# Altium integrated library Linear Technology Power Management Hot Swap Controllers.IntLib: 992 symbols (part 84 of 93)
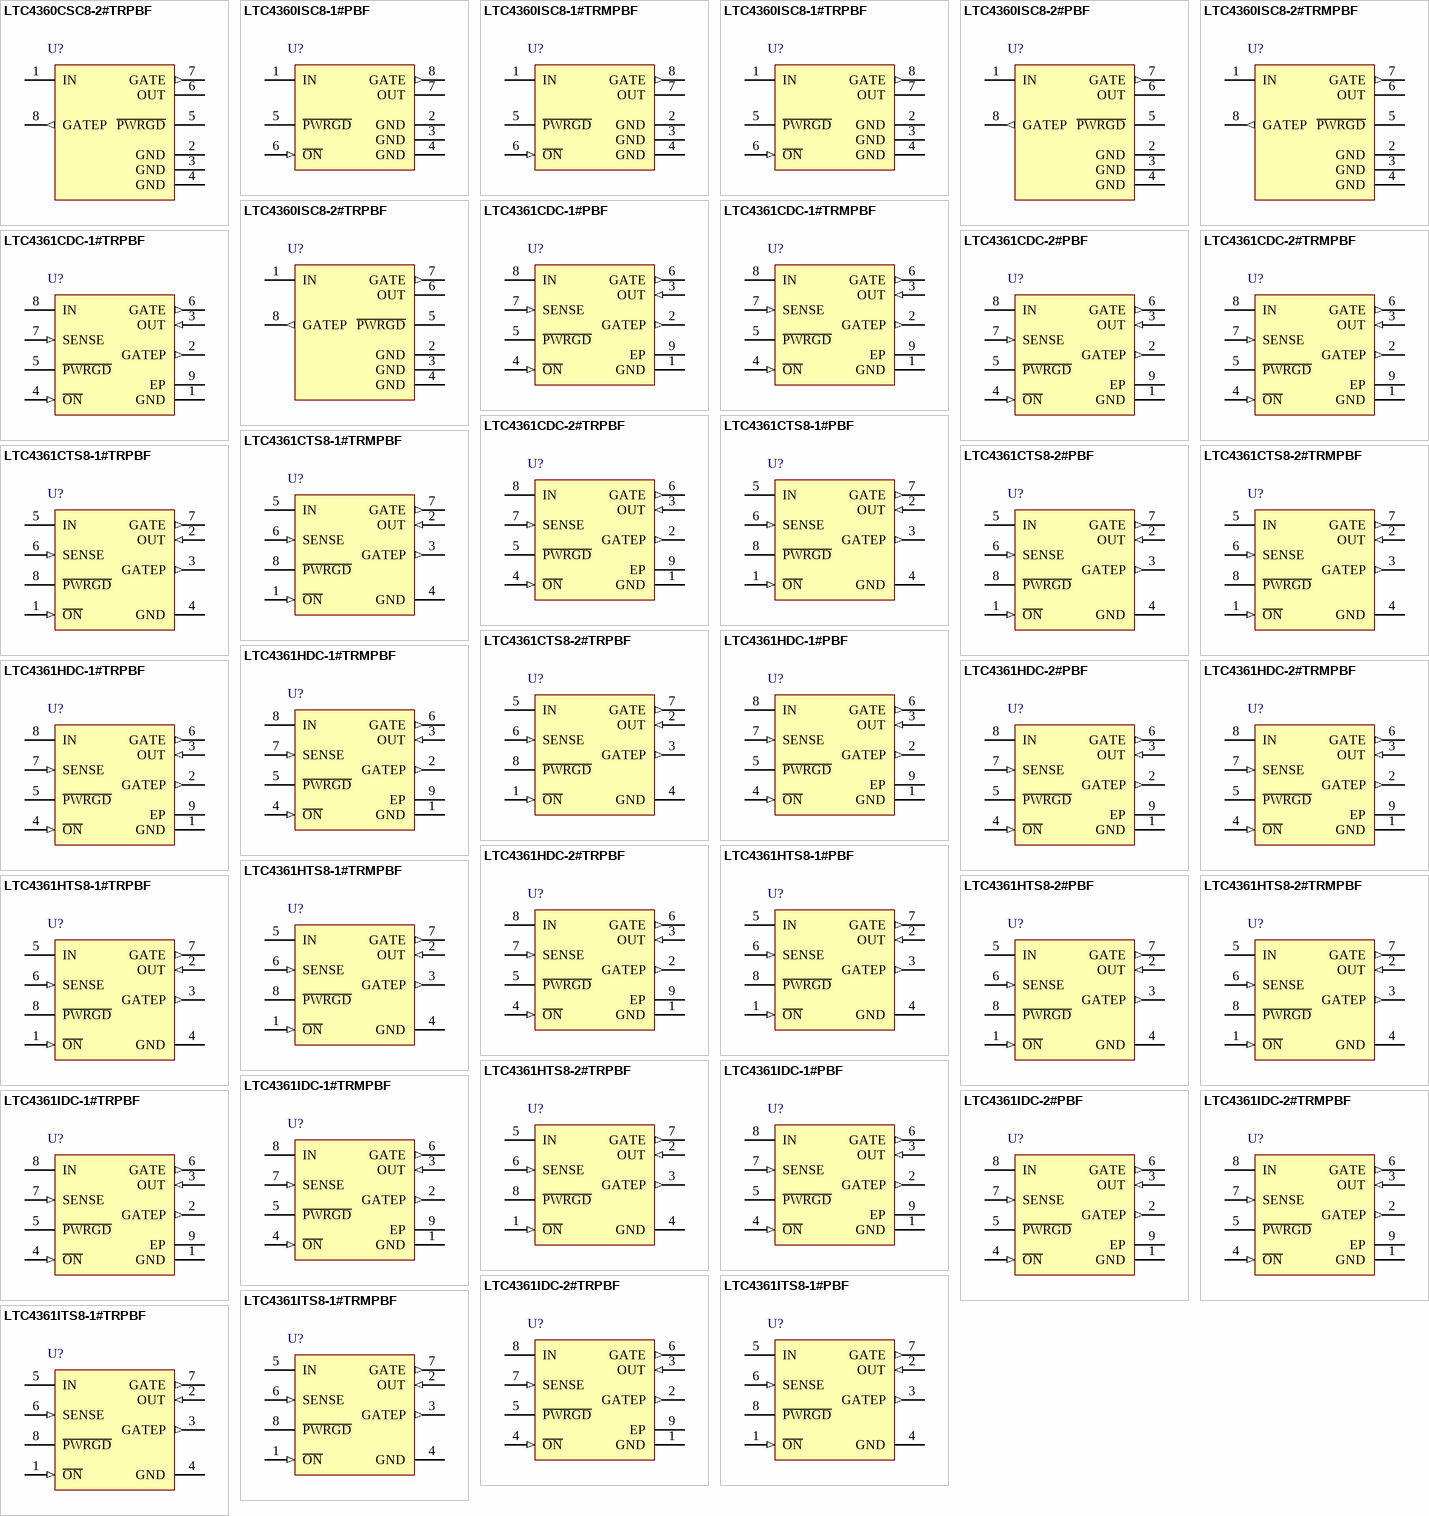
[diagram p120: symbols LTC4360CSC8-2#TRPBF to LTC4361ITS8-1#TRPBF]

## LTC4361HTS8-1#TRMPBF
designator U?
Overvoltage / Overcurrent Protection Controller, 2.5 to 80 V Vin, 8-pin SOT23 (TS8-8), -40 to 125 degC, Pb-Free, Mini Tape and Reel; Manufacturer: Linear Technology; PartNumber: LTC4361HTS8-1#TRMPBF; Active Limiting: no; Circuit Breaker Accuracy(%): 10; Circuit Breaker Threshold: 50 mV; Circuit Breakers(#): 1; Extended Temp: C, I, H; Power Good: yes; DatasheetVersion: Rev. B; PackageVersion: Rev. A, 08/2010; PackageReference: TS8-8; PackageDescription: 8-Pin Plastic TSOT-23, Body 2.9 x 1.63 mm, Pitch 0.65 mm; Supplier 1: Digi-Key; Supplier Part Number 1: LTC4361HTS8-1#TRMPBF-ND; Fast Comparator: no; Fault: no; Foldback: no; Packing: Mini Tape and Reel; Reset: no; RoHS: TRUE; Vin Range: 2.5 to 80 V; Mounting Technology: Surface Mount; Code_JEDEC: MO-193; ComponentLink1Description: Manufacturer URL; ComponentLink1URL: http://www.linear.com/; ComponentLink2Description: Datasheet; ComponentLink2URL: http://cds.linear.com/docs/en/datasheet/436112fb.pdf; ComponentLink3Description: Package Specification; ComponentLink3URL: http://cds.linear.com/docs/en/packaging/SOT_8_05-08-1637.pdf
footprint LT-TS8-8-TSOT-23_V (SOT23, 8-Leads, Body 2.9x1.75mm, Pitch 0.65mm)
pins: 1 ~{ON} (in) "On Control Input. A logic low at O\N\ enables the LTC4361. A logic high at O\N\ activates a low current pull-down at the GATE pin and causes the LTC4361 to enter a low current sleep mode. An internal 5uA current pulls O\N\ (See Datasheet)", 2 OUT (in) "Output Voltage Sense Input for GATE Clamp. Connect to the source of the external N-channel MOSFET to sense the output voltage for GATE to OUT clamp.", 3 GATEP (out) "Gate Drive for External P-Channel MOSFET. GATEP connects to the gate of an optional external P-channel MOSFET to protect against negative voltages at IN. This pin is internally clamped to 5.8V below VIN. An internal 2M (See Datasheet)", 4 GND (power) "Device Ground.", 5 IN (power) "Supply Voltage Input. Connect this pin to the input power supply. This pin has an overvoltage threshold of 5.8V. After an overvoltage event, this pin must fall below VIN(OV) - deltaVOV to release the overvoltage lockout. (See Datasheet)", 6 SENSE (in) "Current Sense Input. Connect a sense resistor between IN and SENSE. An overcurrent protection circuit turns off the N-channel MOSFET when the voltage across the sense resistor exceeds 50mV for more than 10us.", 7 GATE (out) "Gate Drive for External N-Channel MOSFET. An internal charge pump provides a 10uA pull-up current to charge the gate of the external N-channel MOSFET. An additional ramp circuit limits the GATE ramp rate when turning on to (See Datasheet)", 8 ~{PWRGD} (hiz) "Power Good Status. Open-drain output with internal 500k resistive pull-up to OUT. Pulls low 65ms after GATE ramps above VGATE(TH)."

## LTC4361HTS8-1#TRPBF
designator U?
Overvoltage / Overcurrent Protection Controller, 2.5 to 80 V Vin, 8-pin SOT23 (TS8-8), -40 to 125 degC, Pb-Free, Tape and Reel; Manufacturer: Linear Technology; PartNumber: LTC4361HTS8-1#TRPBF; Active Limiting: no; Circuit Breaker Accuracy(%): 10; Circuit Breaker Threshold: 50 mV; Circuit Breakers(#): 1; Extended Temp: C, I, H; Power Good: yes; DatasheetVersion: Rev. B; PackageVersion: Rev. A, 08/2010; PackageReference: TS8-8; PackageDescription: 8-Pin Plastic TSOT-23, Body 2.9 x 1.63 mm, Pitch 0.65 mm; Supplier 1: Digi-Key; Supplier Part Number 1: LTC4361HTS8-1#TRPBF-ND; Fast Comparator: no; Fault: no; Foldback: no; Packing: Tape and Reel; Reset: no; RoHS: TRUE; Vin Range: 2.5 to 80 V; Mounting Technology: Surface Mount; Code_JEDEC: MO-193; ComponentLink1Description: Manufacturer URL; ComponentLink1URL: http://www.linear.com/; ComponentLink2Description: Datasheet; ComponentLink2URL: http://cds.linear.com/docs/en/datasheet/436112fb.pdf; ComponentLink3Description: Package Specification; ComponentLink3URL: http://cds.linear.com/docs/en/packaging/SOT_8_05-08-1637.pdf
footprint LT-TS8-8-TSOT-23_V (SOT23, 8-Leads, Body 2.9x1.75mm, Pitch 0.65mm)
pins: 1 ~{ON} (in) "On Control Input. A logic low at O\N\ enables the LTC4361. A logic high at O\N\ activates a low current pull-down at the GATE pin and causes the LTC4361 to enter a low current sleep mode. An internal 5uA current pulls O\N\ (See Datasheet)", 2 OUT (in) "Output Voltage Sense Input for GATE Clamp. Connect to the source of the external N-channel MOSFET to sense the output voltage for GATE to OUT clamp.", 3 GATEP (out) "Gate Drive for External P-Channel MOSFET. GATEP connects to the gate of an optional external P-channel MOSFET to protect against negative voltages at IN. This pin is internally clamped to 5.8V below VIN. An internal 2M (See Datasheet)", 4 GND (power) "Device Ground.", 5 IN (power) "Supply Voltage Input. Connect this pin to the input power supply. This pin has an overvoltage threshold of 5.8V. After an overvoltage event, this pin must fall below VIN(OV) - deltaVOV to release the overvoltage lockout. (See Datasheet)", 6 SENSE (in) "Current Sense Input. Connect a sense resistor between IN and SENSE. An overcurrent protection circuit turns off the N-channel MOSFET when the voltage across the sense resistor exceeds 50mV for more than 10us.", 7 GATE (out) "Gate Drive for External N-Channel MOSFET. An internal charge pump provides a 10uA pull-up current to charge the gate of the external N-channel MOSFET. An additional ramp circuit limits the GATE ramp rate when turning on to (See Datasheet)", 8 ~{PWRGD} (hiz) "Power Good Status. Open-drain output with internal 500k resistive pull-up to OUT. Pulls low 65ms after GATE ramps above VGATE(TH)."

## LTC4361HTS8-2#PBF
designator U?
Overvoltage / Overcurrent Protection Controller, 2.5 to 80 V Vin, 8-pin SOT23 (TS8-8), -40 to 125 degC, Pb-Free; Manufacturer: Linear Technology; PartNumber: LTC4361HTS8-2#PBF; Active Limiting: no; Circuit Breaker Accuracy(%): 10; Circuit Breaker Threshold: 50 mV; Circuit Breakers(#): 1; Extended Temp: C, I, H; Power Good: yes; DatasheetVersion: Rev. B; PackageVersion: Rev. A, 08/2010; PackageReference: TS8-8; PackageDescription: 8-Pin Plastic TSOT-23, Body 2.9 x 1.63 mm, Pitch 0.65 mm; Fast Comparator: no; Fault: no; Foldback: no; Reset: no; RoHS: TRUE; Vin Range: 2.5 to 80 V; Mounting Technology: Surface Mount; Code_JEDEC: MO-193; ComponentLink1Description: Manufacturer URL; ComponentLink1URL: http://www.linear.com/; ComponentLink2Description: Datasheet; ComponentLink2URL: http://cds.linear.com/docs/en/datasheet/436112fb.pdf; ComponentLink3Description: Package Specification; ComponentLink3URL: http://cds.linear.com/docs/en/packaging/SOT_8_05-08-1637.pdf
footprint LT-TS8-8-TSOT-23_V (SOT23, 8-Leads, Body 2.9x1.75mm, Pitch 0.65mm)
pins: 1 ~{ON} (in) "On Control Input. A logic low at O\N\ enables the LTC4361. A logic high at O\N\ activates a low current pull-down at the GATE pin and causes the LTC4361 to enter a low current sleep mode. An internal 5uA current pulls O\N\ (See Datasheet)", 2 OUT (in) "Output Voltage Sense Input for GATE Clamp. Connect to the source of the external N-channel MOSFET to sense the output voltage for GATE to OUT clamp.", 3 GATEP (out) "Gate Drive for External P-Channel MOSFET. GATEP connects to the gate of an optional external P-channel MOSFET to protect against negative voltages at IN. This pin is internally clamped to 5.8V below VIN. An internal 2M (See Datasheet)", 4 GND (power) "Device Ground.", 5 IN (power) "Supply Voltage Input. Connect this pin to the input power supply. This pin has an overvoltage threshold of 5.8V. After an overvoltage event, this pin must fall below VIN(OV) - deltaVOV to release the overvoltage lockout. (See Datasheet)", 6 SENSE (in) "Current Sense Input. Connect a sense resistor between IN and SENSE. An overcurrent protection circuit turns off the N-channel MOSFET when the voltage across the sense resistor exceeds 50mV for more than 10us.", 7 GATE (out) "Gate Drive for External N-Channel MOSFET. An internal charge pump provides a 10uA pull-up current to charge the gate of the external N-channel MOSFET. An additional ramp circuit limits the GATE ramp rate when turning on to (See Datasheet)", 8 ~{PWRGD} (hiz) "Power Good Status. Open-drain output with internal 500k resistive pull-up to OUT. Pulls low 65ms after GATE ramps above VGATE(TH)."

## LTC4361HTS8-2#TRMPBF
designator U?
Overvoltage / Overcurrent Protection Controller, 2.5 to 80 V Vin, 8-pin SOT23 (TS8-8), -40 to 125 degC, Pb-Free, Mini Tape and Reel; Manufacturer: Linear Technology; PartNumber: LTC4361HTS8-2#TRMPBF; Active Limiting: no; Circuit Breaker Accuracy(%): 10; Circuit Breaker Threshold: 50 mV; Circuit Breakers(#): 1; Extended Temp: C, I, H; Power Good: yes; DatasheetVersion: Rev. B; PackageVersion: Rev. A, 08/2010; PackageReference: TS8-8; PackageDescription: 8-Pin Plastic TSOT-23, Body 2.9 x 1.63 mm, Pitch 0.65 mm; Supplier 1: Digi-Key; Supplier Part Number 1: LTC4361HTS8-2#TRMPBF-ND; Supplier 2: Newark; Supplier Part Number 2: 05W4626; Fast Comparator: no; Fault: no; Foldback: no; Packing: Mini Tape and Reel; Reset: no; RoHS: TRUE; Vin Range: 2.5 to 80 V; Mounting Technology: Surface Mount; Code_JEDEC: MO-193; ComponentLink1Description: Manufacturer URL; ComponentLink1URL: http://www.linear.com/; ComponentLink2Description: Datasheet; ComponentLink2URL: http://cds.linear.com/docs/en/datasheet/436112fb.pdf; ComponentLink3Description: Package Specification; ComponentLink3URL: http://cds.linear.com/docs/en/packaging/SOT_8_05-08-1637.pdf
footprint LT-TS8-8-TSOT-23_V (SOT23, 8-Leads, Body 2.9x1.75mm, Pitch 0.65mm)
pins: 1 ~{ON} (in) "On Control Input. A logic low at O\N\ enables the LTC4361. A logic high at O\N\ activates a low current pull-down at the GATE pin and causes the LTC4361 to enter a low current sleep mode. An internal 5uA current pulls O\N\ (See Datasheet)", 2 OUT (in) "Output Voltage Sense Input for GATE Clamp. Connect to the source of the external N-channel MOSFET to sense the output voltage for GATE to OUT clamp.", 3 GATEP (out) "Gate Drive for External P-Channel MOSFET. GATEP connects to the gate of an optional external P-channel MOSFET to protect against negative voltages at IN. This pin is internally clamped to 5.8V below VIN. An internal 2M (See Datasheet)", 4 GND (power) "Device Ground.", 5 IN (power) "Supply Voltage Input. Connect this pin to the input power supply. This pin has an overvoltage threshold of 5.8V. After an overvoltage event, this pin must fall below VIN(OV) - deltaVOV to release the overvoltage lockout. (See Datasheet)", 6 SENSE (in) "Current Sense Input. Connect a sense resistor between IN and SENSE. An overcurrent protection circuit turns off the N-channel MOSFET when the voltage across the sense resistor exceeds 50mV for more than 10us.", 7 GATE (out) "Gate Drive for External N-Channel MOSFET. An internal charge pump provides a 10uA pull-up current to charge the gate of the external N-channel MOSFET. An additional ramp circuit limits the GATE ramp rate when turning on to (See Datasheet)", 8 ~{PWRGD} (hiz) "Power Good Status. Open-drain output with internal 500k resistive pull-up to OUT. Pulls low 65ms after GATE ramps above VGATE(TH)."

## LTC4361HTS8-2#TRPBF
designator U?
Overvoltage / Overcurrent Protection Controller, 2.5 to 80 V Vin, 8-pin SOT23 (TS8-8), -40 to 125 degC, Pb-Free, Tape and Reel; Manufacturer: Linear Technology; PartNumber: LTC4361HTS8-2#TRPBF; Active Limiting: no; Circuit Breaker Accuracy(%): 10; Circuit Breaker Threshold: 50 mV; Circuit Breakers(#): 1; Extended Temp: C, I, H; Power Good: yes; DatasheetVersion: Rev. B; PackageVersion: Rev. A, 08/2010; PackageReference: TS8-8; PackageDescription: 8-Pin Plastic TSOT-23, Body 2.9 x 1.63 mm, Pitch 0.65 mm; Supplier 1: Digi-Key; Supplier Part Number 1: LTC4361HTS8-2#TRPBF-ND; Fast Comparator: no; Fault: no; Foldback: no; Packing: Tape and Reel; Reset: no; RoHS: TRUE; Vin Range: 2.5 to 80 V; Mounting Technology: Surface Mount; Code_JEDEC: MO-193; ComponentLink1Description: Manufacturer URL; ComponentLink1URL: http://www.linear.com/; ComponentLink2Description: Datasheet; ComponentLink2URL: http://cds.linear.com/docs/en/datasheet/436112fb.pdf; ComponentLink3Description: Package Specification; ComponentLink3URL: http://cds.linear.com/docs/en/packaging/SOT_8_05-08-1637.pdf
footprint LT-TS8-8-TSOT-23_V (SOT23, 8-Leads, Body 2.9x1.75mm, Pitch 0.65mm)
pins: 1 ~{ON} (in) "On Control Input. A logic low at O\N\ enables the LTC4361. A logic high at O\N\ activates a low current pull-down at the GATE pin and causes the LTC4361 to enter a low current sleep mode. An internal 5uA current pulls O\N\ (See Datasheet)", 2 OUT (in) "Output Voltage Sense Input for GATE Clamp. Connect to the source of the external N-channel MOSFET to sense the output voltage for GATE to OUT clamp.", 3 GATEP (out) "Gate Drive for External P-Channel MOSFET. GATEP connects to the gate of an optional external P-channel MOSFET to protect against negative voltages at IN. This pin is internally clamped to 5.8V below VIN. An internal 2M (See Datasheet)", 4 GND (power) "Device Ground.", 5 IN (power) "Supply Voltage Input. Connect this pin to the input power supply. This pin has an overvoltage threshold of 5.8V. After an overvoltage event, this pin must fall below VIN(OV) - deltaVOV to release the overvoltage lockout. (See Datasheet)", 6 SENSE (in) "Current Sense Input. Connect a sense resistor between IN and SENSE. An overcurrent protection circuit turns off the N-channel MOSFET when the voltage across the sense resistor exceeds 50mV for more than 10us.", 7 GATE (out) "Gate Drive for External N-Channel MOSFET. An internal charge pump provides a 10uA pull-up current to charge the gate of the external N-channel MOSFET. An additional ramp circuit limits the GATE ramp rate when turning on to (See Datasheet)", 8 ~{PWRGD} (hiz) "Power Good Status. Open-drain output with internal 500k resistive pull-up to OUT. Pulls low 65ms after GATE ramps above VGATE(TH)."

## LTC4361IDC-1#PBF
designator U?
Overvoltage / Overcurrent Protection Controller, 2.5 to 80 V Vin, 8-pin SON (DC8-8), -40 to 85 degC, Pb-Free; Manufacturer: Linear Technology; PartNumber: LTC4361IDC-1#PBF; Active Limiting: no; Circuit Breaker Accuracy(%): 10; Circuit Breaker Threshold: 50 mV; Circuit Breakers(#): 1; Extended Temp: C, I, H; Power Good: yes; DatasheetVersion: Rev. B; PackageVersion: Rev. A, 06/2010; PackageReference: DC8-8; PackageDescription: 8-Pin Plastic DFN, Body 2 x 2 mm, Pitch 0.45 mm; Supplier 1: Farnell; Supplier Part Number 1: 2295345; Supplier 2: Newark; Supplier Part Number 2: 78T3377; Fast Comparator: no; Fault: no; Foldback: no; Reset: no; RoHS: TRUE; Vin Range: 2.5 to 80 V; Mounting Technology: Surface Mount; ComponentLink1Description: Manufacturer URL; ComponentLink1URL: http://www.linear.com/; ComponentLink2Description: Datasheet; ComponentLink2URL: http://cds.linear.com/docs/en/datasheet/436112fb.pdf; ComponentLink3Description: Package Specification; ComponentLink3URL: http://www.linear.com/docs/en/packaging/DFN_8_05-08-1719.pdf
footprint LT-DC8-8_V (SON, 8-Leads, Body 2x2mm, Pitch 0.45mm, Thermal Pad 1.37x0.64mm)
pins: 1 GND (power) "Device Ground.", 2 GATEP (out) "Gate Drive for External P-Channel MOSFET. GATEP connects to the gate of an optional external P-channel MOSFET to protect against negative voltages at IN. This pin is internally clamped to 5.8V below VIN. An internal 2M (See Datasheet)", 3 OUT (in) "Output Voltage Sense Input for GATE Clamp. Connect to the source of the external N-channel MOSFET to sense the output voltage for GATE to OUT clamp.", 4 ~{ON} (in) "On Control Input. A logic low at O\N\ enables the LTC4361. A logic high at O\N\ activates a low current pull-down at the GATE pin and causes the LTC4361 to enter a low current sleep mode. An internal 5uA current pulls O\N\ (See Datasheet)", 5 ~{PWRGD} (hiz) "Power Good Status. Open-drain output with internal 500k resistive pull-up to OUT. Pulls low 65ms after GATE ramps above VGATE(TH).", 6 GATE (out) "Gate Drive for External N-Channel MOSFET. An internal charge pump provides a 10uA pull-up current to charge the gate of the external N-channel MOSFET. An additional ramp circuit limits the GATE ramp rate when turning on to (See Datasheet)", 7 SENSE (in) "Current Sense Input. Connect a sense resistor between IN and SENSE. An overcurrent protection circuit turns off the N-channel MOSFET when the voltage across the sense resistor exceeds 50mV for more than 10us.", 8 IN (power) "Supply Voltage Input. Connect this pin to the input power supply. This pin has an overvoltage threshold of 5.8V. After an overvoltage event, this pin must fall below VIN(OV) - deltaVOV to release the overvoltage lockout. (See Datasheet)", 9 EP (power) "EXPOSED PAD (PIN 9) IS GND"

## LTC4361IDC-1#TRMPBF
designator U?
Overvoltage / Overcurrent Protection Controller, 2.5 to 80 V Vin, 8-pin SON (DC8-8), -40 to 85 degC, Pb-Free, Mini Tape and Reel; Manufacturer: Linear Technology; PartNumber: LTC4361IDC-1#TRMPBF; Active Limiting: no; Circuit Breaker Accuracy(%): 10; Circuit Breaker Threshold: 50 mV; Circuit Breakers(#): 1; Extended Temp: C, I, H; Power Good: yes; DatasheetVersion: Rev. B; PackageVersion: Rev. A, 06/2010; PackageReference: DC8-8; PackageDescription: 8-Pin Plastic DFN, Body 2 x 2 mm, Pitch 0.45 mm; Supplier 1: Digi-Key; Supplier Part Number 1: LTC4361IDC-1#TRMPBFTR-ND; Supplier 2: Digi-Key; Supplier Part Number 2: LTC4361IDC-1#TRMPBFCT-ND; Supplier 3: Digi-Key; Supplier Part Number 3: LTC4361IDC-1#TRMPBFDKR-ND; Supplier 4: Newark; Supplier Part Number 4: 13T4010; Fast Comparator: no; Fault: no; Foldback: no; Packing: Mini Tape and Reel; Reset: no; RoHS: TRUE; Vin Range: 2.5 to 80 V; Mounting Technology: Surface Mount; ComponentLink1Description: Manufacturer URL; ComponentLink1URL: http://www.linear.com/; ComponentLink2Description: Datasheet; ComponentLink2URL: http://cds.linear.com/docs/en/datasheet/436112fb.pdf; ComponentLink3Description: Package Specification; ComponentLink3URL: http://www.linear.com/docs/en/packaging/DFN_8_05-08-1719.pdf
footprint LT-DC8-8_V (SON, 8-Leads, Body 2x2mm, Pitch 0.45mm, Thermal Pad 1.37x0.64mm)
pins: 1 GND (power) "Device Ground.", 2 GATEP (out) "Gate Drive for External P-Channel MOSFET. GATEP connects to the gate of an optional external P-channel MOSFET to protect against negative voltages at IN. This pin is internally clamped to 5.8V below VIN. An internal 2M (See Datasheet)", 3 OUT (in) "Output Voltage Sense Input for GATE Clamp. Connect to the source of the external N-channel MOSFET to sense the output voltage for GATE to OUT clamp.", 4 ~{ON} (in) "On Control Input. A logic low at O\N\ enables the LTC4361. A logic high at O\N\ activates a low current pull-down at the GATE pin and causes the LTC4361 to enter a low current sleep mode. An internal 5uA current pulls O\N\ (See Datasheet)", 5 ~{PWRGD} (hiz) "Power Good Status. Open-drain output with internal 500k resistive pull-up to OUT. Pulls low 65ms after GATE ramps above VGATE(TH).", 6 GATE (out) "Gate Drive for External N-Channel MOSFET. An internal charge pump provides a 10uA pull-up current to charge the gate of the external N-channel MOSFET. An additional ramp circuit limits the GATE ramp rate when turning on to (See Datasheet)", 7 SENSE (in) "Current Sense Input. Connect a sense resistor between IN and SENSE. An overcurrent protection circuit turns off the N-channel MOSFET when the voltage across the sense resistor exceeds 50mV for more than 10us.", 8 IN (power) "Supply Voltage Input. Connect this pin to the input power supply. This pin has an overvoltage threshold of 5.8V. After an overvoltage event, this pin must fall below VIN(OV) - deltaVOV to release the overvoltage lockout. (See Datasheet)", 9 EP (power) "EXPOSED PAD (PIN 9) IS GND"

## LTC4361IDC-1#TRPBF
designator U?
Overvoltage / Overcurrent Protection Controller, 2.5 to 80 V Vin, 8-pin SON (DC8-8), -40 to 85 degC, Pb-Free, Tape and Reel; Manufacturer: Linear Technology; PartNumber: LTC4361IDC-1#TRPBF; Active Limiting: no; Circuit Breaker Accuracy(%): 10; Circuit Breaker Threshold: 50 mV; Circuit Breakers(#): 1; Extended Temp: C, I, H; Power Good: yes; DatasheetVersion: Rev. B; PackageVersion: Rev. A, 06/2010; PackageReference: DC8-8; PackageDescription: 8-Pin Plastic DFN, Body 2 x 2 mm, Pitch 0.45 mm; Supplier 1: Digi-Key; Supplier Part Number 1: LTC4361IDC-1#TRPBF-ND; Supplier 2: Newark; Supplier Part Number 2: 13T4011; Fast Comparator: no; Fault: no; Foldback: no; Packing: Tape and Reel; Reset: no; RoHS: TRUE; Vin Range: 2.5 to 80 V; Mounting Technology: Surface Mount; ComponentLink1Description: Manufacturer URL; ComponentLink1URL: http://www.linear.com/; ComponentLink2Description: Datasheet; ComponentLink2URL: http://cds.linear.com/docs/en/datasheet/436112fb.pdf; ComponentLink3Description: Package Specification; ComponentLink3URL: http://www.linear.com/docs/en/packaging/DFN_8_05-08-1719.pdf
footprint LT-DC8-8_V (SON, 8-Leads, Body 2x2mm, Pitch 0.45mm, Thermal Pad 1.37x0.64mm)
pins: 1 GND (power) "Device Ground.", 2 GATEP (out) "Gate Drive for External P-Channel MOSFET. GATEP connects to the gate of an optional external P-channel MOSFET to protect against negative voltages at IN. This pin is internally clamped to 5.8V below VIN. An internal 2M (See Datasheet)", 3 OUT (in) "Output Voltage Sense Input for GATE Clamp. Connect to the source of the external N-channel MOSFET to sense the output voltage for GATE to OUT clamp.", 4 ~{ON} (in) "On Control Input. A logic low at O\N\ enables the LTC4361. A logic high at O\N\ activates a low current pull-down at the GATE pin and causes the LTC4361 to enter a low current sleep mode. An internal 5uA current pulls O\N\ (See Datasheet)", 5 ~{PWRGD} (hiz) "Power Good Status. Open-drain output with internal 500k resistive pull-up to OUT. Pulls low 65ms after GATE ramps above VGATE(TH).", 6 GATE (out) "Gate Drive for External N-Channel MOSFET. An internal charge pump provides a 10uA pull-up current to charge the gate of the external N-channel MOSFET. An additional ramp circuit limits the GATE ramp rate when turning on to (See Datasheet)", 7 SENSE (in) "Current Sense Input. Connect a sense resistor between IN and SENSE. An overcurrent protection circuit turns off the N-channel MOSFET when the voltage across the sense resistor exceeds 50mV for more than 10us.", 8 IN (power) "Supply Voltage Input. Connect this pin to the input power supply. This pin has an overvoltage threshold of 5.8V. After an overvoltage event, this pin must fall below VIN(OV) - deltaVOV to release the overvoltage lockout. (See Datasheet)", 9 EP (power) "EXPOSED PAD (PIN 9) IS GND"

## LTC4361IDC-2#PBF
designator U?
Overvoltage / Overcurrent Protection Controller, 2.5 to 80 V Vin, 8-pin SON (DC8-8), -40 to 85 degC, Pb-Free; Manufacturer: Linear Technology; PartNumber: LTC4361IDC-2#PBF; Active Limiting: no; Circuit Breaker Accuracy(%): 10; Circuit Breaker Threshold: 50 mV; Circuit Breakers(#): 1; Extended Temp: C, I, H; Power Good: yes; DatasheetVersion: Rev. B; PackageVersion: Rev. A, 06/2010; PackageReference: DC8-8; PackageDescription: 8-Pin Plastic DFN, Body 2 x 2 mm, Pitch 0.45 mm; Supplier 1: Farnell; Supplier Part Number 1: 2308156; Supplier 2: Newark; Supplier Part Number 2: 78T3378; Fast Comparator: no; Fault: no; Foldback: no; Reset: no; RoHS: TRUE; Vin Range: 2.5 to 80 V; Mounting Technology: Surface Mount; ComponentLink1Description: Manufacturer URL; ComponentLink1URL: http://www.linear.com/; ComponentLink2Description: Datasheet; ComponentLink2URL: http://cds.linear.com/docs/en/datasheet/436112fb.pdf; ComponentLink3Description: Package Specification; ComponentLink3URL: http://www.linear.com/docs/en/packaging/DFN_8_05-08-1719.pdf
footprint LT-DC8-8_V (SON, 8-Leads, Body 2x2mm, Pitch 0.45mm, Thermal Pad 1.37x0.64mm)
pins: 1 GND (power) "Device Ground.", 2 GATEP (out) "Gate Drive for External P-Channel MOSFET. GATEP connects to the gate of an optional external P-channel MOSFET to protect against negative voltages at IN. This pin is internally clamped to 5.8V below VIN. An internal 2M (See Datasheet)", 3 OUT (in) "Output Voltage Sense Input for GATE Clamp. Connect to the source of the external N-channel MOSFET to sense the output voltage for GATE to OUT clamp.", 4 ~{ON} (in) "On Control Input. A logic low at O\N\ enables the LTC4361. A logic high at O\N\ activates a low current pull-down at the GATE pin and causes the LTC4361 to enter a low current sleep mode. An internal 5uA current pulls O\N\ (See Datasheet)", 5 ~{PWRGD} (hiz) "Power Good Status. Open-drain output with internal 500k resistive pull-up to OUT. Pulls low 65ms after GATE ramps above VGATE(TH).", 6 GATE (out) "Gate Drive for External N-Channel MOSFET. An internal charge pump provides a 10uA pull-up current to charge the gate of the external N-channel MOSFET. An additional ramp circuit limits the GATE ramp rate when turning on to (See Datasheet)", 7 SENSE (in) "Current Sense Input. Connect a sense resistor between IN and SENSE. An overcurrent protection circuit turns off the N-channel MOSFET when the voltage across the sense resistor exceeds 50mV for more than 10us.", 8 IN (power) "Supply Voltage Input. Connect this pin to the input power supply. This pin has an overvoltage threshold of 5.8V. After an overvoltage event, this pin must fall below VIN(OV) - deltaVOV to release the overvoltage lockout. (See Datasheet)", 9 EP (power) "EXPOSED PAD (PIN 9) IS GND"

## LTC4361IDC-2#TRMPBF
designator U?
Overvoltage / Overcurrent Protection Controller, 2.5 to 80 V Vin, 8-pin SON (DC8-8), -40 to 85 degC, Pb-Free, Mini Tape and Reel; Manufacturer: Linear Technology; PartNumber: LTC4361IDC-2#TRMPBF; Active Limiting: no; Circuit Breaker Accuracy(%): 10; Circuit Breaker Threshold: 50 mV; Circuit Breakers(#): 1; Extended Temp: C, I, H; Power Good: yes; DatasheetVersion: Rev. B; PackageVersion: Rev. A, 06/2010; PackageReference: DC8-8; PackageDescription: 8-Pin Plastic DFN, Body 2 x 2 mm, Pitch 0.45 mm; Supplier 1: Digi-Key; Supplier Part Number 1: LTC4361IDC-2#TRMPBFTR-ND; Supplier 2: Digi-Key; Supplier Part Number 2: LTC4361IDC-2#TRMPBFCT-ND; Supplier 3: Digi-Key; Supplier Part Number 3: LTC4361IDC-2#TRMPBFDKR-ND; Supplier 4: Newark; Supplier Part Number 4: 13T4012; Fast Comparator: no; Fault: no; Foldback: no; Packing: Mini Tape and Reel; Reset: no; RoHS: TRUE; Vin Range: 2.5 to 80 V; Mounting Technology: Surface Mount; ComponentLink1Description: Manufacturer URL; ComponentLink1URL: http://www.linear.com/; ComponentLink2Description: Datasheet; ComponentLink2URL: http://cds.linear.com/docs/en/datasheet/436112fb.pdf; ComponentLink3Description: Package Specification; ComponentLink3URL: http://www.linear.com/docs/en/packaging/DFN_8_05-08-1719.pdf
footprint LT-DC8-8_V (SON, 8-Leads, Body 2x2mm, Pitch 0.45mm, Thermal Pad 1.37x0.64mm)
pins: 1 GND (power) "Device Ground.", 2 GATEP (out) "Gate Drive for External P-Channel MOSFET. GATEP connects to the gate of an optional external P-channel MOSFET to protect against negative voltages at IN. This pin is internally clamped to 5.8V below VIN. An internal 2M (See Datasheet)", 3 OUT (in) "Output Voltage Sense Input for GATE Clamp. Connect to the source of the external N-channel MOSFET to sense the output voltage for GATE to OUT clamp.", 4 ~{ON} (in) "On Control Input. A logic low at O\N\ enables the LTC4361. A logic high at O\N\ activates a low current pull-down at the GATE pin and causes the LTC4361 to enter a low current sleep mode. An internal 5uA current pulls O\N\ (See Datasheet)", 5 ~{PWRGD} (hiz) "Power Good Status. Open-drain output with internal 500k resistive pull-up to OUT. Pulls low 65ms after GATE ramps above VGATE(TH).", 6 GATE (out) "Gate Drive for External N-Channel MOSFET. An internal charge pump provides a 10uA pull-up current to charge the gate of the external N-channel MOSFET. An additional ramp circuit limits the GATE ramp rate when turning on to (See Datasheet)", 7 SENSE (in) "Current Sense Input. Connect a sense resistor between IN and SENSE. An overcurrent protection circuit turns off the N-channel MOSFET when the voltage across the sense resistor exceeds 50mV for more than 10us.", 8 IN (power) "Supply Voltage Input. Connect this pin to the input power supply. This pin has an overvoltage threshold of 5.8V. After an overvoltage event, this pin must fall below VIN(OV) - deltaVOV to release the overvoltage lockout. (See Datasheet)", 9 EP (power) "EXPOSED PAD (PIN 9) IS GND"

## LTC4361IDC-2#TRPBF
designator U?
Overvoltage / Overcurrent Protection Controller, 2.5 to 80 V Vin, 8-pin SON (DC8-8), -40 to 85 degC, Pb-Free, Tape and Reel; Manufacturer: Linear Technology; PartNumber: LTC4361IDC-2#TRPBF; Active Limiting: no; Circuit Breaker Accuracy(%): 10; Circuit Breaker Threshold: 50 mV; Circuit Breakers(#): 1; Extended Temp: C, I, H; Power Good: yes; DatasheetVersion: Rev. B; PackageVersion: Rev. A, 06/2010; PackageReference: DC8-8; PackageDescription: 8-Pin Plastic DFN, Body 2 x 2 mm, Pitch 0.45 mm; Supplier 1: Digi-Key; Supplier Part Number 1: LTC4361IDC-2#TRPBF-ND; Supplier 2: Newark; Supplier Part Number 2: 13T4013; Fast Comparator: no; Fault: no; Foldback: no; Packing: Tape and Reel; Reset: no; RoHS: TRUE; Vin Range: 2.5 to 80 V; Mounting Technology: Surface Mount; ComponentLink1Description: Manufacturer URL; ComponentLink1URL: http://www.linear.com/; ComponentLink2Description: Datasheet; ComponentLink2URL: http://cds.linear.com/docs/en/datasheet/436112fb.pdf; ComponentLink3Description: Package Specification; ComponentLink3URL: http://www.linear.com/docs/en/packaging/DFN_8_05-08-1719.pdf
footprint LT-DC8-8_V (SON, 8-Leads, Body 2x2mm, Pitch 0.45mm, Thermal Pad 1.37x0.64mm)
pins: 1 GND (power) "Device Ground.", 2 GATEP (out) "Gate Drive for External P-Channel MOSFET. GATEP connects to the gate of an optional external P-channel MOSFET to protect against negative voltages at IN. This pin is internally clamped to 5.8V below VIN. An internal 2M (See Datasheet)", 3 OUT (in) "Output Voltage Sense Input for GATE Clamp. Connect to the source of the external N-channel MOSFET to sense the output voltage for GATE to OUT clamp.", 4 ~{ON} (in) "On Control Input. A logic low at O\N\ enables the LTC4361. A logic high at O\N\ activates a low current pull-down at the GATE pin and causes the LTC4361 to enter a low current sleep mode. An internal 5uA current pulls O\N\ (See Datasheet)", 5 ~{PWRGD} (hiz) "Power Good Status. Open-drain output with internal 500k resistive pull-up to OUT. Pulls low 65ms after GATE ramps above VGATE(TH).", 6 GATE (out) "Gate Drive for External N-Channel MOSFET. An internal charge pump provides a 10uA pull-up current to charge the gate of the external N-channel MOSFET. An additional ramp circuit limits the GATE ramp rate when turning on to (See Datasheet)", 7 SENSE (in) "Current Sense Input. Connect a sense resistor between IN and SENSE. An overcurrent protection circuit turns off the N-channel MOSFET when the voltage across the sense resistor exceeds 50mV for more than 10us.", 8 IN (power) "Supply Voltage Input. Connect this pin to the input power supply. This pin has an overvoltage threshold of 5.8V. After an overvoltage event, this pin must fall below VIN(OV) - deltaVOV to release the overvoltage lockout. (See Datasheet)", 9 EP (power) "EXPOSED PAD (PIN 9) IS GND"

## LTC4361ITS8-1#PBF
designator U?
Overvoltage / Overcurrent Protection Controller, 2.5 to 80 V Vin, 8-pin SOT23 (TS8-8), -40 to 85 degC, Pb-Free; Manufacturer: Linear Technology; PartNumber: LTC4361ITS8-1#PBF; Active Limiting: no; Circuit Breaker Accuracy(%): 10; Circuit Breaker Threshold: 50 mV; Circuit Breakers(#): 1; Extended Temp: C, I, H; Power Good: yes; DatasheetVersion: Rev. B; PackageVersion: Rev. A, 08/2010; PackageReference: TS8-8; PackageDescription: 8-Pin Plastic TSOT-23, Body 2.9 x 1.63 mm, Pitch 0.65 mm; Fast Comparator: no; Fault: no; Foldback: no; Reset: no; RoHS: TRUE; Vin Range: 2.5 to 80 V; Mounting Technology: Surface Mount; Code_JEDEC: MO-193; ComponentLink1Description: Manufacturer URL; ComponentLink1URL: http://www.linear.com/; ComponentLink2Description: Datasheet; ComponentLink2URL: http://cds.linear.com/docs/en/datasheet/436112fb.pdf; ComponentLink3Description: Package Specification; ComponentLink3URL: http://cds.linear.com/docs/en/packaging/SOT_8_05-08-1637.pdf
footprint LT-TS8-8-TSOT-23_V (SOT23, 8-Leads, Body 2.9x1.75mm, Pitch 0.65mm)
pins: 1 ~{ON} (in) "On Control Input. A logic low at O\N\ enables the LTC4361. A logic high at O\N\ activates a low current pull-down at the GATE pin and causes the LTC4361 to enter a low current sleep mode. An internal 5uA current pulls O\N\ (See Datasheet)", 2 OUT (in) "Output Voltage Sense Input for GATE Clamp. Connect to the source of the external N-channel MOSFET to sense the output voltage for GATE to OUT clamp.", 3 GATEP (out) "Gate Drive for External P-Channel MOSFET. GATEP connects to the gate of an optional external P-channel MOSFET to protect against negative voltages at IN. This pin is internally clamped to 5.8V below VIN. An internal 2M (See Datasheet)", 4 GND (power) "Device Ground.", 5 IN (power) "Supply Voltage Input. Connect this pin to the input power supply. This pin has an overvoltage threshold of 5.8V. After an overvoltage event, this pin must fall below VIN(OV) - deltaVOV to release the overvoltage lockout. (See Datasheet)", 6 SENSE (in) "Current Sense Input. Connect a sense resistor between IN and SENSE. An overcurrent protection circuit turns off the N-channel MOSFET when the voltage across the sense resistor exceeds 50mV for more than 10us.", 7 GATE (out) "Gate Drive for External N-Channel MOSFET. An internal charge pump provides a 10uA pull-up current to charge the gate of the external N-channel MOSFET. An additional ramp circuit limits the GATE ramp rate when turning on to (See Datasheet)", 8 ~{PWRGD} (hiz) "Power Good Status. Open-drain output with internal 500k resistive pull-up to OUT. Pulls low 65ms after GATE ramps above VGATE(TH)."

## LTC4361ITS8-1#TRMPBF
designator U?
Overvoltage / Overcurrent Protection Controller, 2.5 to 80 V Vin, 8-pin SOT23 (TS8-8), -40 to 85 degC, Pb-Free, Mini Tape and Reel; Manufacturer: Linear Technology; PartNumber: LTC4361ITS8-1#TRMPBF; Active Limiting: no; Circuit Breaker Accuracy(%): 10; Circuit Breaker Threshold: 50 mV; Circuit Breakers(#): 1; Extended Temp: C, I, H; Power Good: yes; DatasheetVersion: Rev. B; PackageVersion: Rev. A, 08/2010; PackageReference: TS8-8; PackageDescription: 8-Pin Plastic TSOT-23, Body 2.9 x 1.63 mm, Pitch 0.65 mm; Supplier 1: Digi-Key; Supplier Part Number 1: LTC4361ITS8-1#TRMPBFTR-ND; Supplier 2: Digi-Key; Supplier Part Number 2: LTC4361ITS8-1#TRMPBFCT-ND; Supplier 3: Digi-Key; Supplier Part Number 3: LTC4361ITS8-1#TRMPBFDKR-ND; Fast Comparator: no; Fault: no; Foldback: no; Packing: Mini Tape and Reel; Reset: no; RoHS: TRUE; Vin Range: 2.5 to 80 V; Mounting Technology: Surface Mount; Code_JEDEC: MO-193; ComponentLink1Description: Manufacturer URL; ComponentLink1URL: http://www.linear.com/; ComponentLink2Description: Datasheet; ComponentLink2URL: http://cds.linear.com/docs/en/datasheet/436112fb.pdf; ComponentLink3Description: Package Specification; ComponentLink3URL: http://cds.linear.com/docs/en/packaging/SOT_8_05-08-1637.pdf
footprint LT-TS8-8-TSOT-23_V (SOT23, 8-Leads, Body 2.9x1.75mm, Pitch 0.65mm)
pins: 1 ~{ON} (in) "On Control Input. A logic low at O\N\ enables the LTC4361. A logic high at O\N\ activates a low current pull-down at the GATE pin and causes the LTC4361 to enter a low current sleep mode. An internal 5uA current pulls O\N\ (See Datasheet)", 2 OUT (in) "Output Voltage Sense Input for GATE Clamp. Connect to the source of the external N-channel MOSFET to sense the output voltage for GATE to OUT clamp.", 3 GATEP (out) "Gate Drive for External P-Channel MOSFET. GATEP connects to the gate of an optional external P-channel MOSFET to protect against negative voltages at IN. This pin is internally clamped to 5.8V below VIN. An internal 2M (See Datasheet)", 4 GND (power) "Device Ground.", 5 IN (power) "Supply Voltage Input. Connect this pin to the input power supply. This pin has an overvoltage threshold of 5.8V. After an overvoltage event, this pin must fall below VIN(OV) - deltaVOV to release the overvoltage lockout. (See Datasheet)", 6 SENSE (in) "Current Sense Input. Connect a sense resistor between IN and SENSE. An overcurrent protection circuit turns off the N-channel MOSFET when the voltage across the sense resistor exceeds 50mV for more than 10us.", 7 GATE (out) "Gate Drive for External N-Channel MOSFET. An internal charge pump provides a 10uA pull-up current to charge the gate of the external N-channel MOSFET. An additional ramp circuit limits the GATE ramp rate when turning on to (See Datasheet)", 8 ~{PWRGD} (hiz) "Power Good Status. Open-drain output with internal 500k resistive pull-up to OUT. Pulls low 65ms after GATE ramps above VGATE(TH)."

## LTC4361ITS8-1#TRPBF
designator U?
Overvoltage / Overcurrent Protection Controller, 2.5 to 80 V Vin, 8-pin SOT23 (TS8-8), -40 to 85 degC, Pb-Free, Tape and Reel; Manufacturer: Linear Technology; PartNumber: LTC4361ITS8-1#TRPBF; Active Limiting: no; Circuit Breaker Accuracy(%): 10; Circuit Breaker Threshold: 50 mV; Circuit Breakers(#): 1; Extended Temp: C, I, H; Power Good: yes; DatasheetVersion: Rev. B; PackageVersion: Rev. A, 08/2010; PackageReference: TS8-8; PackageDescription: 8-Pin Plastic TSOT-23, Body 2.9 x 1.63 mm, Pitch 0.65 mm; Supplier 1: Digi-Key; Supplier Part Number 1: LTC4361ITS8-1#TRPBF-ND; Fast Comparator: no; Fault: no; Foldback: no; Packing: Tape and Reel; Reset: no; RoHS: TRUE; Vin Range: 2.5 to 80 V; Mounting Technology: Surface Mount; Code_JEDEC: MO-193; ComponentLink1Description: Manufacturer URL; ComponentLink1URL: http://www.linear.com/; ComponentLink2Description: Datasheet; ComponentLink2URL: http://cds.linear.com/docs/en/datasheet/436112fb.pdf; ComponentLink3Description: Package Specification; ComponentLink3URL: http://cds.linear.com/docs/en/packaging/SOT_8_05-08-1637.pdf
footprint LT-TS8-8-TSOT-23_V (SOT23, 8-Leads, Body 2.9x1.75mm, Pitch 0.65mm)
pins: 1 ~{ON} (in) "On Control Input. A logic low at O\N\ enables the LTC4361. A logic high at O\N\ activates a low current pull-down at the GATE pin and causes the LTC4361 to enter a low current sleep mode. An internal 5uA current pulls O\N\ (See Datasheet)", 2 OUT (in) "Output Voltage Sense Input for GATE Clamp. Connect to the source of the external N-channel MOSFET to sense the output voltage for GATE to OUT clamp.", 3 GATEP (out) "Gate Drive for External P-Channel MOSFET. GATEP connects to the gate of an optional external P-channel MOSFET to protect against negative voltages at IN. This pin is internally clamped to 5.8V below VIN. An internal 2M (See Datasheet)", 4 GND (power) "Device Ground.", 5 IN (power) "Supply Voltage Input. Connect this pin to the input power supply. This pin has an overvoltage threshold of 5.8V. After an overvoltage event, this pin must fall below VIN(OV) - deltaVOV to release the overvoltage lockout. (See Datasheet)", 6 SENSE (in) "Current Sense Input. Connect a sense resistor between IN and SENSE. An overcurrent protection circuit turns off the N-channel MOSFET when the voltage across the sense resistor exceeds 50mV for more than 10us.", 7 GATE (out) "Gate Drive for External N-Channel MOSFET. An internal charge pump provides a 10uA pull-up current to charge the gate of the external N-channel MOSFET. An additional ramp circuit limits the GATE ramp rate when turning on to (See Datasheet)", 8 ~{PWRGD} (hiz) "Power Good Status. Open-drain output with internal 500k resistive pull-up to OUT. Pulls low 65ms after GATE ramps above VGATE(TH)."

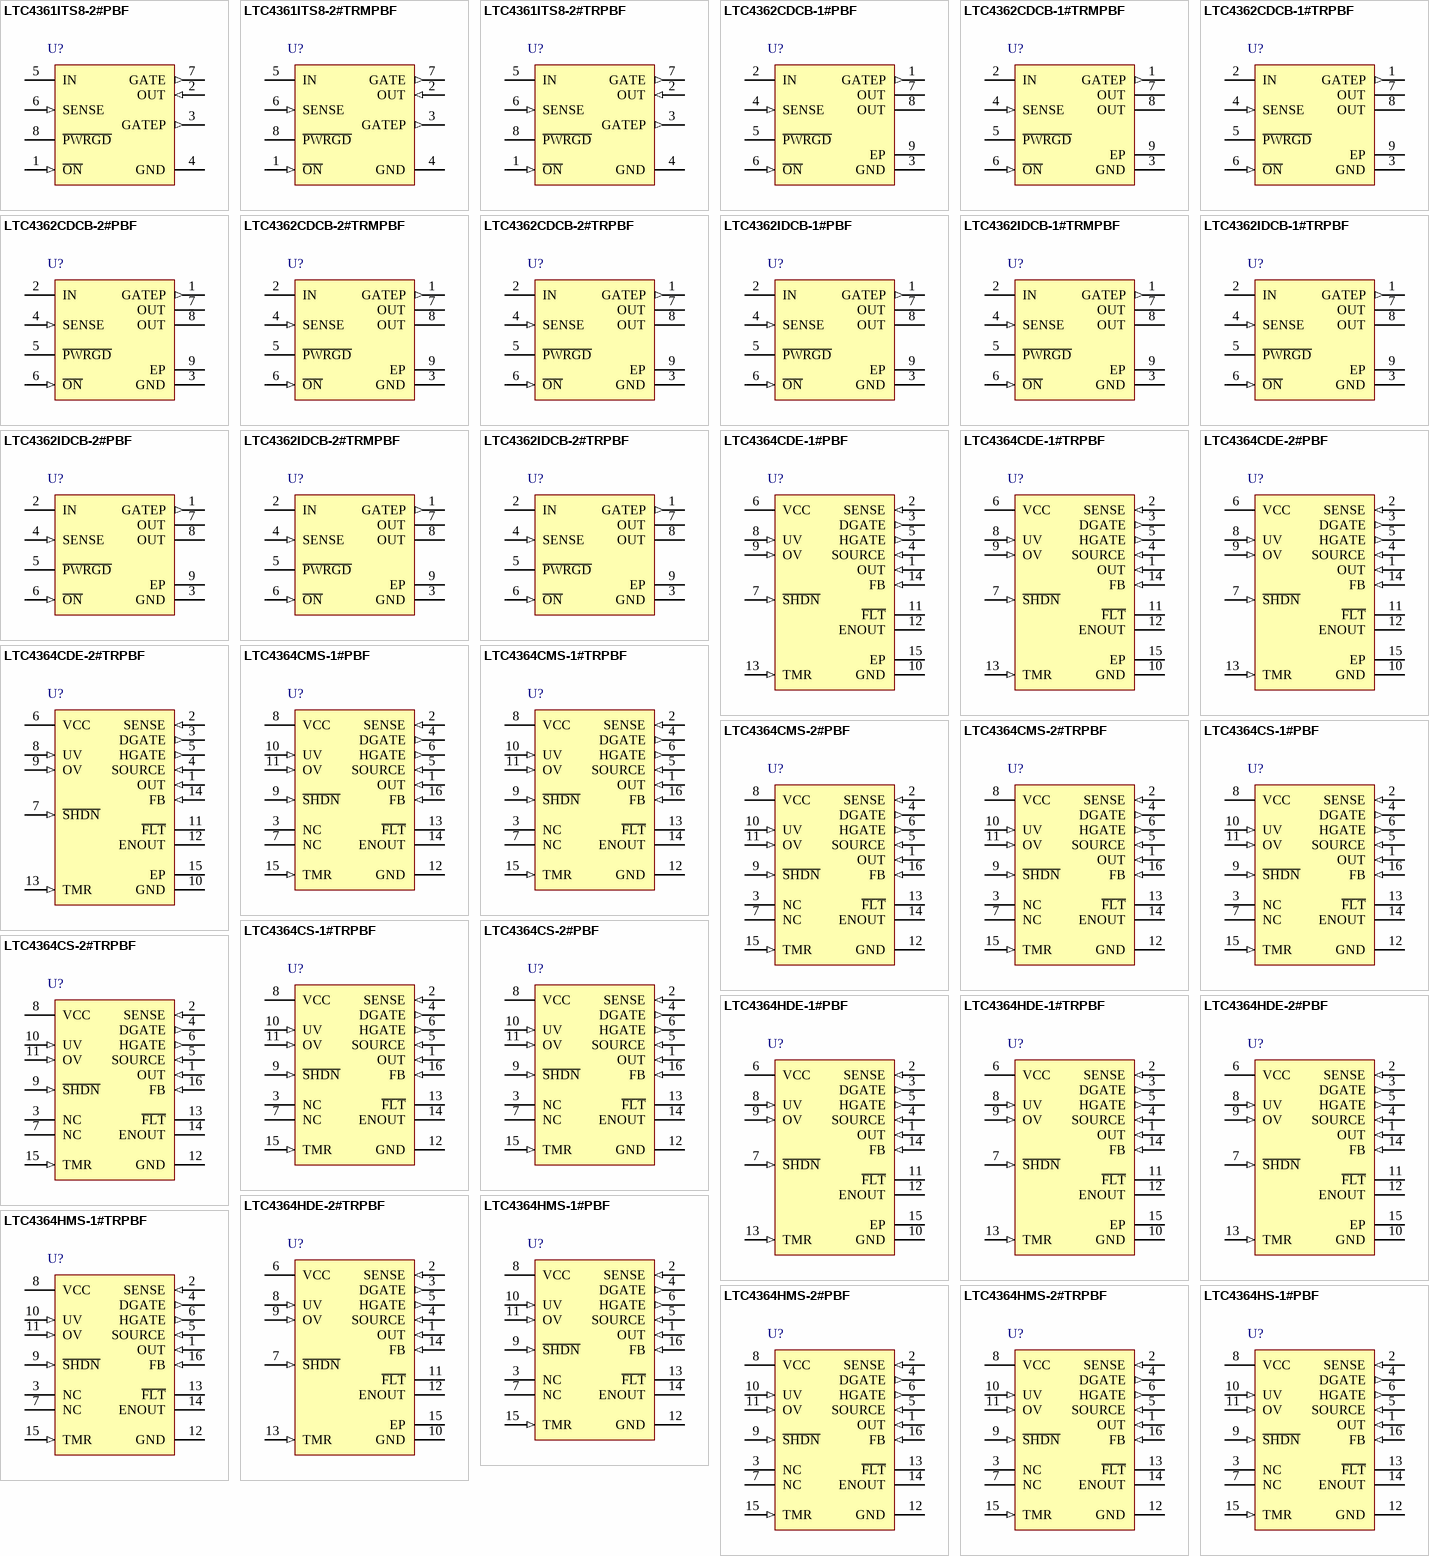
[diagram p34: symbols LTC4361ITS8-2#PBF to LTC4364HS-1#PBF]

## LTC4361ITS8-2#PBF
designator U?
Overvoltage / Overcurrent Protection Controller, 2.5 to 80 V Vin, 8-pin SOT23 (TS8-8), -40 to 85 degC, Pb-Free; Manufacturer: Linear Technology; PartNumber: LTC4361ITS8-2#PBF; Active Limiting: no; Circuit Breaker Accuracy(%): 10; Circuit Breaker Threshold: 50 mV; Circuit Breakers(#): 1; Extended Temp: C, I, H; Power Good: yes; DatasheetVersion: Rev. B; PackageVersion: Rev. A, 08/2010; PackageReference: TS8-8; PackageDescription: 8-Pin Plastic TSOT-23, Body 2.9 x 1.63 mm, Pitch 0.65 mm; Fast Comparator: no; Fault: no; Foldback: no; Reset: no; RoHS: TRUE; Vin Range: 2.5 to 80 V; Mounting Technology: Surface Mount; Code_JEDEC: MO-193; ComponentLink1Description: Manufacturer URL; ComponentLink1URL: http://www.linear.com/; ComponentLink2Description: Datasheet; ComponentLink2URL: http://cds.linear.com/docs/en/datasheet/436112fb.pdf; ComponentLink3Description: Package Specification; ComponentLink3URL: http://cds.linear.com/docs/en/packaging/SOT_8_05-08-1637.pdf
footprint LT-TS8-8-TSOT-23_V (SOT23, 8-Leads, Body 2.9x1.75mm, Pitch 0.65mm)
pins: 1 ~{ON} (in) "On Control Input. A logic low at O\N\ enables the LTC4361. A logic high at O\N\ activates a low current pull-down at the GATE pin and causes the LTC4361 to enter a low current sleep mode. An internal 5uA current pulls O\N\ (See Datasheet)", 2 OUT (in) "Output Voltage Sense Input for GATE Clamp. Connect to the source of the external N-channel MOSFET to sense the output voltage for GATE to OUT clamp.", 3 GATEP (out) "Gate Drive for External P-Channel MOSFET. GATEP connects to the gate of an optional external P-channel MOSFET to protect against negative voltages at IN. This pin is internally clamped to 5.8V below VIN. An internal 2M (See Datasheet)", 4 GND (power) "Device Ground.", 5 IN (power) "Supply Voltage Input. Connect this pin to the input power supply. This pin has an overvoltage threshold of 5.8V. After an overvoltage event, this pin must fall below VIN(OV) - deltaVOV to release the overvoltage lockout. (See Datasheet)", 6 SENSE (in) "Current Sense Input. Connect a sense resistor between IN and SENSE. An overcurrent protection circuit turns off the N-channel MOSFET when the voltage across the sense resistor exceeds 50mV for more than 10us.", 7 GATE (out) "Gate Drive for External N-Channel MOSFET. An internal charge pump provides a 10uA pull-up current to charge the gate of the external N-channel MOSFET. An additional ramp circuit limits the GATE ramp rate when turning on to (See Datasheet)", 8 ~{PWRGD} (hiz) "Power Good Status. Open-drain output with internal 500k resistive pull-up to OUT. Pulls low 65ms after GATE ramps above VGATE(TH)."

## LTC4361ITS8-2#TRMPBF
designator U?
Overvoltage / Overcurrent Protection Controller, 2.5 to 80 V Vin, 8-pin SOT23 (TS8-8), -40 to 85 degC, Pb-Free, Mini Tape and Reel; Manufacturer: Linear Technology; PartNumber: LTC4361ITS8-2#TRMPBF; Active Limiting: no; Circuit Breaker Accuracy(%): 10; Circuit Breaker Threshold: 50 mV; Circuit Breakers(#): 1; Extended Temp: C, I, H; Power Good: yes; DatasheetVersion: Rev. B; PackageVersion: Rev. A, 08/2010; PackageReference: TS8-8; PackageDescription: 8-Pin Plastic TSOT-23, Body 2.9 x 1.63 mm, Pitch 0.65 mm; Supplier 1: Digi-Key; Supplier Part Number 1: LTC4361ITS8-2#TRMPBFTR-ND; Supplier 2: Digi-Key; Supplier Part Number 2: LTC4361ITS8-2#TRMPBFCT-ND; Supplier 3: Digi-Key; Supplier Part Number 3: LTC4361ITS8-2#TRMPBFDKR-ND; Fast Comparator: no; Fault: no; Foldback: no; Packing: Mini Tape and Reel; Reset: no; RoHS: TRUE; Vin Range: 2.5 to 80 V; Mounting Technology: Surface Mount; Code_JEDEC: MO-193; ComponentLink1Description: Manufacturer URL; ComponentLink1URL: http://www.linear.com/; ComponentLink2Description: Datasheet; ComponentLink2URL: http://cds.linear.com/docs/en/datasheet/436112fb.pdf; ComponentLink3Description: Package Specification; ComponentLink3URL: http://cds.linear.com/docs/en/packaging/SOT_8_05-08-1637.pdf
footprint LT-TS8-8-TSOT-23_V (SOT23, 8-Leads, Body 2.9x1.75mm, Pitch 0.65mm)
pins: 1 ~{ON} (in) "On Control Input. A logic low at O\N\ enables the LTC4361. A logic high at O\N\ activates a low current pull-down at the GATE pin and causes the LTC4361 to enter a low current sleep mode. An internal 5uA current pulls O\N\ (See Datasheet)", 2 OUT (in) "Output Voltage Sense Input for GATE Clamp. Connect to the source of the external N-channel MOSFET to sense the output voltage for GATE to OUT clamp.", 3 GATEP (out) "Gate Drive for External P-Channel MOSFET. GATEP connects to the gate of an optional external P-channel MOSFET to protect against negative voltages at IN. This pin is internally clamped to 5.8V below VIN. An internal 2M (See Datasheet)", 4 GND (power) "Device Ground.", 5 IN (power) "Supply Voltage Input. Connect this pin to the input power supply. This pin has an overvoltage threshold of 5.8V. After an overvoltage event, this pin must fall below VIN(OV) - deltaVOV to release the overvoltage lockout. (See Datasheet)", 6 SENSE (in) "Current Sense Input. Connect a sense resistor between IN and SENSE. An overcurrent protection circuit turns off the N-channel MOSFET when the voltage across the sense resistor exceeds 50mV for more than 10us.", 7 GATE (out) "Gate Drive for External N-Channel MOSFET. An internal charge pump provides a 10uA pull-up current to charge the gate of the external N-channel MOSFET. An additional ramp circuit limits the GATE ramp rate when turning on to (See Datasheet)", 8 ~{PWRGD} (hiz) "Power Good Status. Open-drain output with internal 500k resistive pull-up to OUT. Pulls low 65ms after GATE ramps above VGATE(TH)."

## LTC4361ITS8-2#TRPBF
designator U?
Overvoltage / Overcurrent Protection Controller, 2.5 to 80 V Vin, 8-pin SOT23 (TS8-8), -40 to 85 degC, Pb-Free, Tape and Reel; Manufacturer: Linear Technology; PartNumber: LTC4361ITS8-2#TRPBF; Active Limiting: no; Circuit Breaker Accuracy(%): 10; Circuit Breaker Threshold: 50 mV; Circuit Breakers(#): 1; Extended Temp: C, I, H; Power Good: yes; DatasheetVersion: Rev. B; PackageVersion: Rev. A, 08/2010; PackageReference: TS8-8; PackageDescription: 8-Pin Plastic TSOT-23, Body 2.9 x 1.63 mm, Pitch 0.65 mm; Supplier 1: Digi-Key; Supplier Part Number 1: LTC4361ITS8-2#TRPBF-ND; Fast Comparator: no; Fault: no; Foldback: no; Packing: Tape and Reel; Reset: no; RoHS: TRUE; Vin Range: 2.5 to 80 V; Mounting Technology: Surface Mount; Code_JEDEC: MO-193; ComponentLink1Description: Manufacturer URL; ComponentLink1URL: http://www.linear.com/; ComponentLink2Description: Datasheet; ComponentLink2URL: http://cds.linear.com/docs/en/datasheet/436112fb.pdf; ComponentLink3Description: Package Specification; ComponentLink3URL: http://cds.linear.com/docs/en/packaging/SOT_8_05-08-1637.pdf
footprint LT-TS8-8-TSOT-23_V (SOT23, 8-Leads, Body 2.9x1.75mm, Pitch 0.65mm)
pins: 1 ~{ON} (in) "On Control Input. A logic low at O\N\ enables the LTC4361. A logic high at O\N\ activates a low current pull-down at the GATE pin and causes the LTC4361 to enter a low current sleep mode. An internal 5uA current pulls O\N\ (See Datasheet)", 2 OUT (in) "Output Voltage Sense Input for GATE Clamp. Connect to the source of the external N-channel MOSFET to sense the output voltage for GATE to OUT clamp.", 3 GATEP (out) "Gate Drive for External P-Channel MOSFET. GATEP connects to the gate of an optional external P-channel MOSFET to protect against negative voltages at IN. This pin is internally clamped to 5.8V below VIN. An internal 2M (See Datasheet)", 4 GND (power) "Device Ground.", 5 IN (power) "Supply Voltage Input. Connect this pin to the input power supply. This pin has an overvoltage threshold of 5.8V. After an overvoltage event, this pin must fall below VIN(OV) - deltaVOV to release the overvoltage lockout. (See Datasheet)", 6 SENSE (in) "Current Sense Input. Connect a sense resistor between IN and SENSE. An overcurrent protection circuit turns off the N-channel MOSFET when the voltage across the sense resistor exceeds 50mV for more than 10us.", 7 GATE (out) "Gate Drive for External N-Channel MOSFET. An internal charge pump provides a 10uA pull-up current to charge the gate of the external N-channel MOSFET. An additional ramp circuit limits the GATE ramp rate when turning on to (See Datasheet)", 8 ~{PWRGD} (hiz) "Power Good Status. Open-drain output with internal 500k resistive pull-up to OUT. Pulls low 65ms after GATE ramps above VGATE(TH)."